# EAGLE library part CC1101 (library RoboJackets-RF)
IC RF TXRX ISM 1GHZ 20VFQFN Datasheet <https://www.ti.com/lit/ds/symlink/cc1101.pdf>
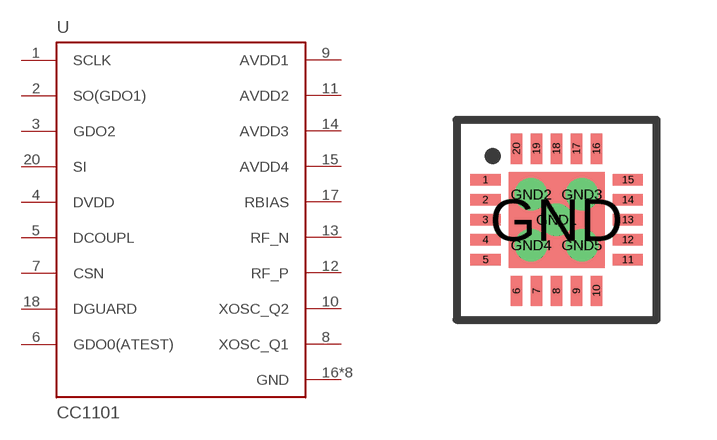
[diagram p0: symbol with the pads of QLP20; footprint QLP20]

Designator prefix U

## CC1101 (DKPN: 296-35718-1-ND)  [QLP20]
1  SCLK  pas
2  SO(GDO1)  pas
3  GDO2  pas
4  DVDD  pas
5  DCOUPL  pas
6  GDO0(ATEST)  pas
7  CSN  pas
8  XOSC_Q1  pas
9  AVDD1  pas
10  XOSC_Q2  pas
11  AVDD2  pas
12  RF_P  pas
13  RF_N  pas
14  AVDD3  pas
15  AVDD4  pas
16  GND  pas
17  RBIAS  pas
18  DGUARD  pas
19  GND  pas
20  SI  pas
GND  GND  pas
GND1  GND  pas
GND2  GND  pas
GND3  GND  pas
GND4  GND  pas
GND5  GND  pas

## Footprint QLP20 (pad centres in mm)
smd 0.76 x 0.28: 1 -1.78,1; 2 -1.78,0.5; 3 -1.78,0; 4 -1.78,-0.5; 5 -1.78,-1; 11 1.78,-1; 12 1.78,-0.5; 13 1.78,0; 14 1.78,0.5; 15 1.78,1
smd 0.28 x 0.76: 6 -1,-1.78; 7 -0.5,-1.78; 8 0,-1.78; 9 0.5,-1.78; 10 1,-1.78; 16 1,1.78; 17 0.5,1.78; 18 0,1.78; 19 -0.5,1.78; 20 -1,1.78
smd 2.4 x 2.4: GND 0,0
drill 0.3: GND1 0,0; GND2 -0.635,0.635; GND3 0.635,0.635; GND4 -0.635,-0.635; GND5 0.635,-0.635